# EAGLE library part 10PIN (library pedals-headers)
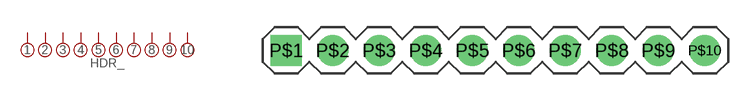
[diagram p2: symbol with the pads of 10PIN; footprint 10PIN]

Designator prefix HDR_

## 10PIN  [10PIN]
P$1  1
P$2  2
P$3  3
P$4  4
P$5  5
P$6  6
P$7  7
P$8  8
P$9  9
P$10  10

## Footprint 10PIN (pad centres in mm)
drill 0.9 pad 1.676 square: P$1 -11.43,0
drill 0.9 pad 1.676: P$2 -8.89,0; P$3 -6.35,0; P$4 -3.81,0; P$5 -1.27,0; P$6 1.27,0; P$7 3.81,0; P$8 6.35,0; P$9 8.89,0; P$10 11.43,0